# EAGLE library part SMD-BLACK-MALE-HEADER(2X5P-1.27) (library Seeed-OPL-Connector)
320020119
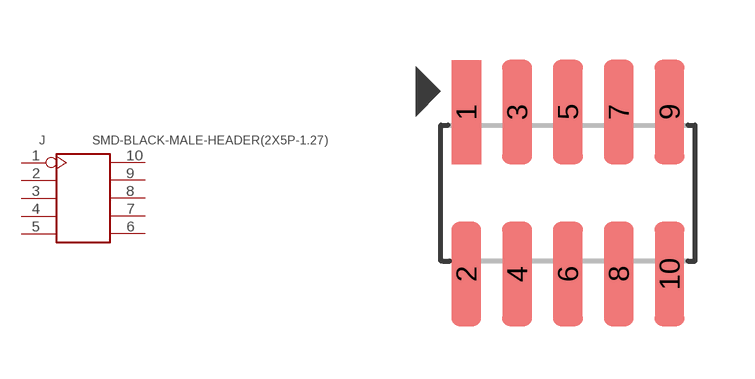
[diagram p108: symbol with the pads of H2X5-SMD-1.27; footprint H2X5-SMD-1.27]

Designator prefix J

## SMD-BLACK-MALE-HEADER(2X5P-1.27) (MPN: F243-1109A0BMUB2; VALUE: 2x5p-smd-1.27)  [H2X5-SMD-1.27]
1  1
2  2
3  3
4  4
5  5
6  6
7  7
8  8
9  9
10  10

## Footprint H2X5-SMD-1.27 (pad centres in mm)
smd 0.74 x 2.6: 1 -2.54,2.025; 2 -2.54,-2.025; 3 -1.27,2.025; 4 -1.27,-2.025; 5 0,2.025; 6 0,-2.025; 7 1.27,2.025; 8 1.27,-2.025; 9 2.54,2.025; 10 2.54,-2.025